# EAGLE library part LT3751 (library kickerchips)
LT3751
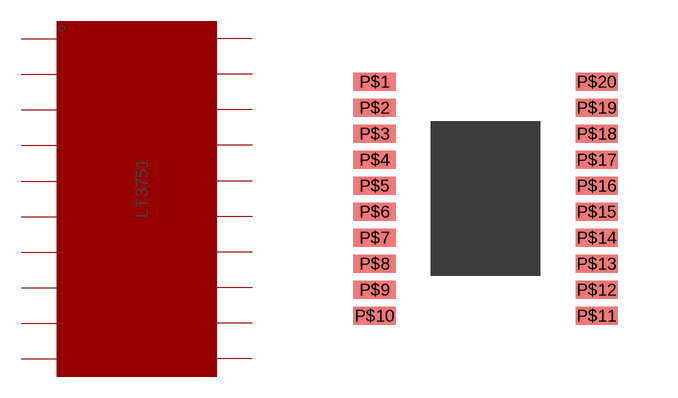
[diagram p0: symbol with the pads of TSSOP; footprint TSSOP]

Designator prefix -

## LT3751  [TSSOP]
P$1  P$1
P$2  P$2
P$3  P$3
P$4  P$4
P$5  P$5
P$6  P$6
P$7  P$7
P$8  P$8
P$9  P$9
P$10  P$10
P$11  P$11
P$12  P$12
P$13  P$13
P$14  P$14
P$15  P$15
P$16  P$16
P$17  P$17
P$18  P$18
P$19  P$19
P$20  P$20

## Footprint TSSOP (pad centres in mm)
20 pin TSSOP package
smd 1.05 x 0.45: P$1 -0.525,-0.225; P$2 -0.525,-0.875; P$3 -0.525,-1.525; P$4 -0.525,-2.175; P$5 -0.525,-2.825; P$6 -0.525,-3.475; P$7 -0.525,-4.125; P$8 -0.525,-4.775; P$9 -0.525,-5.425; P$10 -0.525,-6.075; P$11 5.025,-6.075; P$12 5.025,-5.425; P$13 5.025,-4.775; P$14 5.025,-4.125; P$15 5.025,-3.475; P$16 5.025,-2.825; P$17 5.025,-2.175; P$18 5.025,-1.525; P$19 5.025,-0.875; P$20 5.025,-0.225